# EAGLE library part USB.HUB-USB3.1-6.PORT__USB7206C/KDX (library KVM-Keyboard)
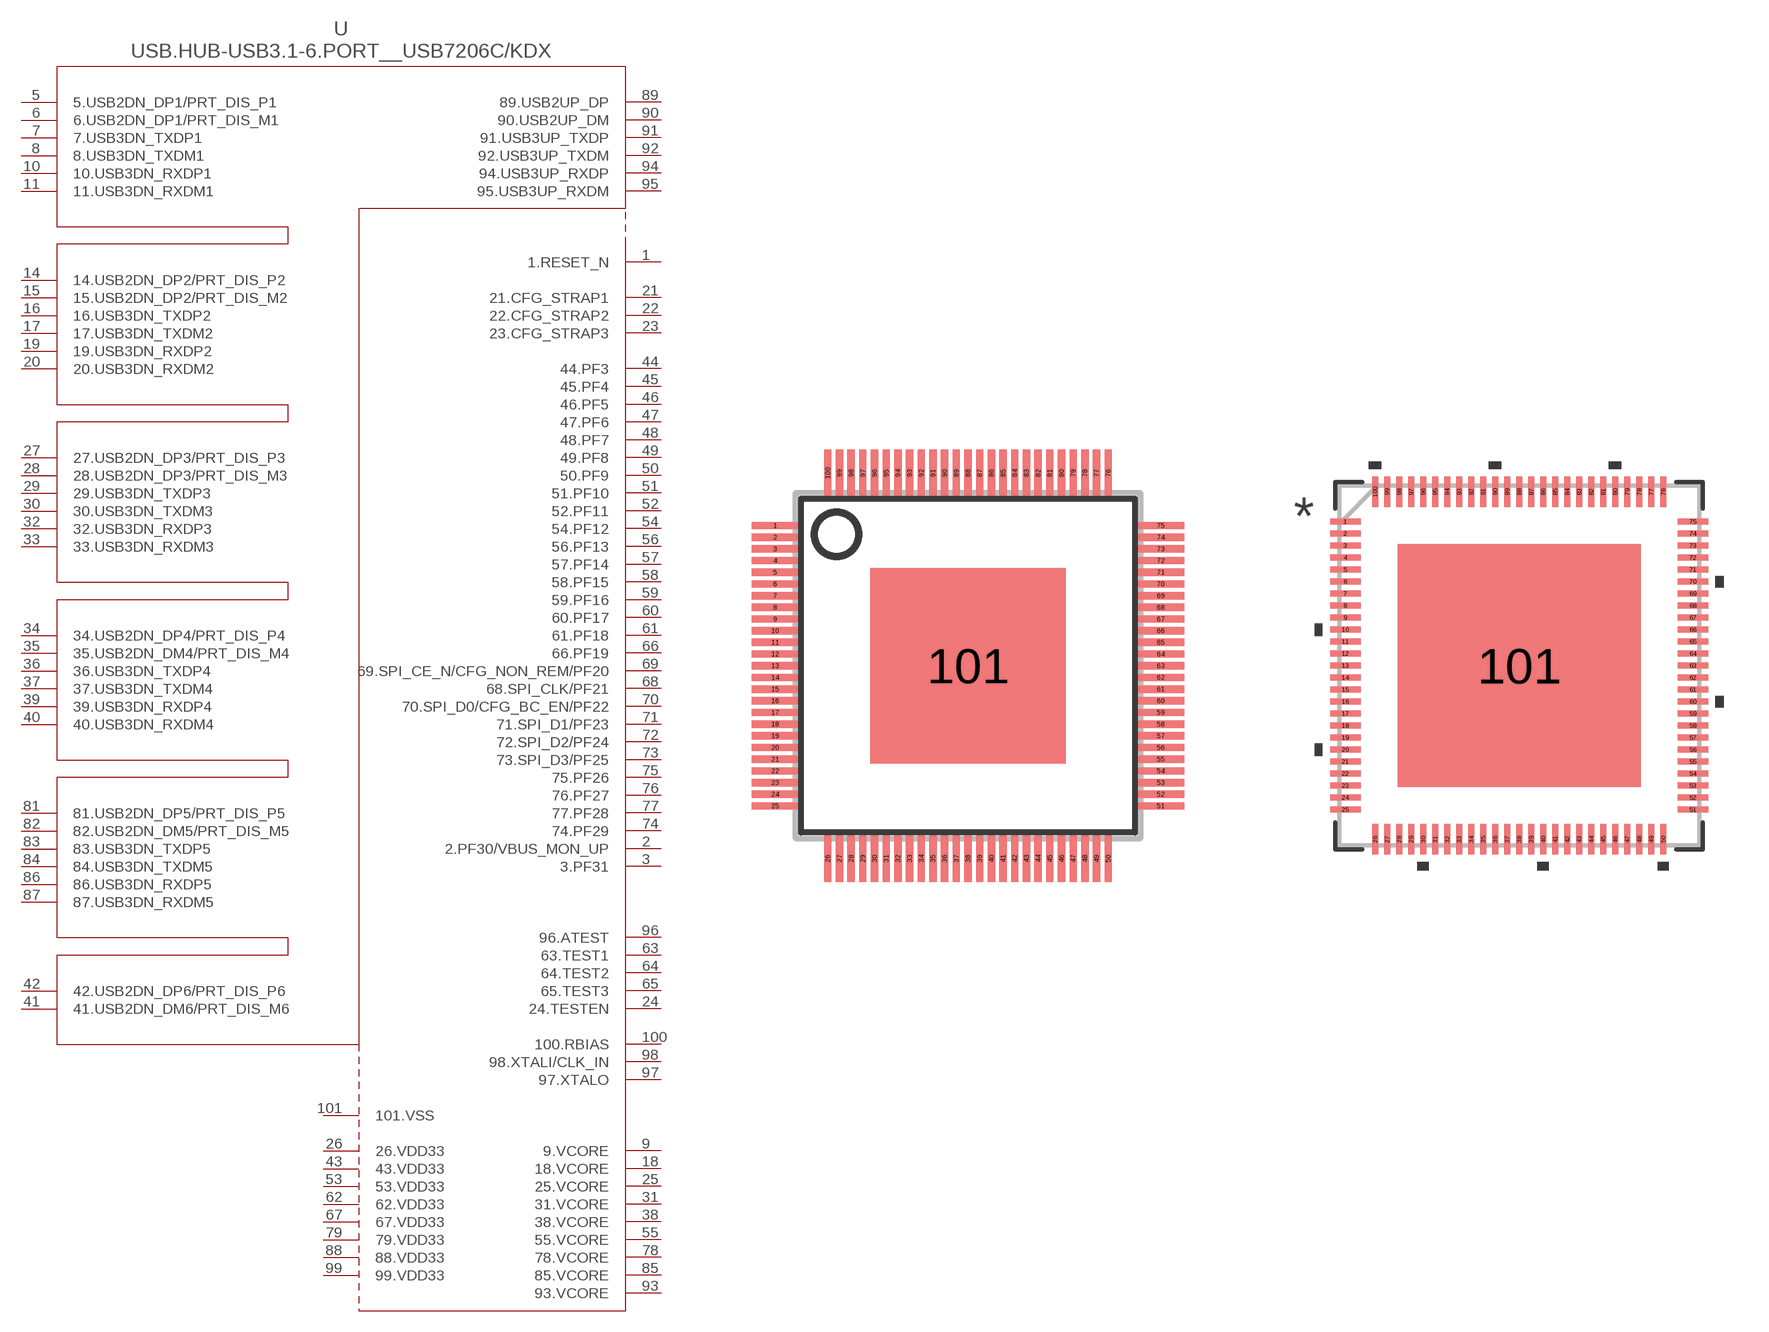
[diagram p7: symbol with the pads of 100-VFQFN_12X12__EXPOSED.PAD; footprints 100-VFQFN_12X12__EXPOSED.PAD, VQFN100_KDX_MCH]

Designator prefix -

## USB.HUB-USB3.1-6.PORT__USB7206C/KDXEDITED.EAGLE  [100-VFQFN_12X12__EXPOSED.PAD]
1  1.RESET_N  in
2  2.PF30/VBUS_MON_UP
3  3.PF31
5  5.USB2DN_DP1/PRT_DIS_P1
6  6.USB2DN_DP1/PRT_DIS_M1
7  7.USB3DN_TXDP1
8  8.USB3DN_TXDM1
9  9.VCORE  pwr
10  10.USB3DN_RXDP1
11  11.USB3DN_RXDM1
14  14.USB2DN_DP2/PRT_DIS_P2
15  15.USB2DN_DP2/PRT_DIS_M2
16  16.USB3DN_TXDP2
17  17.USB3DN_TXDM2
18  18.VCORE  pwr
19  19.USB3DN_RXDP2
20  20.USB3DN_RXDM2
21  21.CFG_STRAP1  in
22  22.CFG_STRAP2  in
23  23.CFG_STRAP3  in
24  24.TESTEN
25  25.VCORE  pwr
26  26.VDD33  pwr
27  27.USB2DN_DP3/PRT_DIS_P3
28  28.USB2DN_DP3/PRT_DIS_M3
29  29.USB3DN_TXDP3
30  30.USB3DN_TXDM3
31  31.VCORE  pwr
32  32.USB3DN_RXDP3
33  33.USB3DN_RXDM3
34  34.USB2DN_DP4/PRT_DIS_P4
35  35.USB2DN_DM4/PRT_DIS_M4
36  36.USB3DN_TXDP4
37  37.USB3DN_TXDM4
38  38.VCORE  pwr
39  39.USB3DN_RXDP4
40  40.USB3DN_RXDM4
41  41.USB2DN_DM6/PRT_DIS_M6
42  42.USB2DN_DP6/PRT_DIS_P6
43  43.VDD33  pwr
44  44.PF3
45  45.PF4
46  46.PF5
47  47.PF6
48  48.PF7
49  49.PF8
50  50.PF9
51  51.PF10
52  52.PF11
53  53.VDD33  pwr
54  54.PF12
55  55.VCORE  pwr
56  56.PF13
57  57.PF14
58  58.PF15
59  59.PF16
60  60.PF17
61  61.PF18
62  62.VDD33  pwr
63  63.TEST1
64  64.TEST2
65  65.TEST3
66  66.PF19
67  67.VDD33  pwr
68  68.SPI_CLK/PF21
69  69.SPI_CE_N/CFG_NON_REM/PF20
70  70.SPI_D0/CFG_BC_EN/PF22
71  71.SPI_D1/PF23
72  72.SPI_D2/PF24
73  73.SPI_D3/PF25
74  74.PF29
75  75.PF26
76  76.PF27
77  77.PF28
78  78.VCORE  pwr
79  79.VDD33  pwr
81  81.USB2DN_DP5/PRT_DIS_P5
82  82.USB2DN_DM5/PRT_DIS_M5
83  83.USB3DN_TXDP5
84  84.USB3DN_TXDM5
85  85.VCORE  pwr
86  86.USB3DN_RXDP5
87  87.USB3DN_RXDM5
88  88.VDD33  pwr
89  89.USB2UP_DP
90  90.USB2UP_DM
91  91.USB3UP_TXDP
92  92.USB3UP_TXDM
93  93.VCORE  pwr
94  94.USB3UP_RXDP
95  95.USB3UP_RXDM
96  96.ATEST
97  97.XTALO  out
98  98.XTALI/CLK_IN
99  99.VDD33  pwr
100  100.RBIAS
101  101.VSS  pwr

## USB.HUB-USB3.1-6.PORT__USB7206C/KDXVQFN100_KDX_MCH  [VQFN100_KDX_MCH]
Pads as for 100-VFQFN_12X12__EXPOSED.PAD

## USB.HUB-USB3.1-6.PORT__USB7206C/KDXVQFN100_KDX_MCH-L  [VQFN100_KDX_MCH-L]
Pads as for 100-VFQFN_12X12__EXPOSED.PAD

## USB.HUB-USB3.1-6.PORT__USB7206C/KDXVQFN100_KDX_MCH-M  [VQFN100_KDX_MCH-M]
Pads as for 100-VFQFN_12X12__EXPOSED.PAD

## Footprint 100-VFQFN_12X12__EXPOSED.PAD (pad centres in mm)
QFP100 shrink quad flat pack, square
smd 1.6 x 0.25: 1 -6.6,4.8; 2 -6.6,4.4; 3 -6.6,4; 4 -6.6,3.6; 5 -6.6,3.2; 6 -6.6,2.8; 7 -6.6,2.4; 8 -6.6,2; 9 -6.6,1.6; 10 -6.6,1.2; 11 -6.6,0.8; 12 -6.6,0.4; 13 -6.6,0; 14 -6.6,-0.4; 15 -6.6,-0.8; 16 -6.6,-1.2; 17 -6.6,-1.6; 18 -6.6,-2; 19 -6.6,-2.4; 20 -6.6,-2.8; 21 -6.6,-3.2; 22 -6.6,-3.6; 23 -6.6,-4; 24 -6.6,-4.4; 25 -6.6,-4.8; 51 6.6,-4.8; 52 6.6,-4.4; 53 6.6,-4; 54 6.6,-3.6; 55 6.6,-3.2; 56 6.6,-2.8; 57 6.6,-2.4; 58 6.6,-2; 59 6.6,-1.6; 60 6.6,-1.2; 61 6.6,-0.8; 62 6.6,-0.4; 63 6.6,0; 64 6.6,0.4; 65 6.6,0.8; 66 6.6,1.2; 67 6.6,1.6; 68 6.6,2; 69 6.6,2.4; 70 6.6,2.8; 71 6.6,3.2; 72 6.6,3.6; 73 6.6,4; 74 6.6,4.4; 75 6.6,4.8
smd 0.25 x 1.6: 26 -4.8,-6.6; 27 -4.4,-6.6; 28 -4,-6.6; 29 -3.6,-6.6; 30 -3.2,-6.6; 31 -2.8,-6.6; 32 -2.4,-6.6; 33 -2,-6.6; 34 -1.6,-6.6; 35 -1.2,-6.6; 36 -0.8,-6.6; 37 -0.4,-6.6; 38 0,-6.6; 39 0.4,-6.6; 40 0.8,-6.6; 41 1.2,-6.6; 42 1.6,-6.6; 43 2,-6.6; 44 2.4,-6.6; 45 2.8,-6.6; 46 3.2,-6.6; 47 3.6,-6.6; 48 4,-6.6; 49 4.4,-6.6; 50 4.8,-6.6; 76 4.8,6.6; 77 4.4,6.6; 78 4,6.6; 79 3.6,6.6; 80 3.2,6.6; 81 2.8,6.6; 82 2.4,6.6; 83 2,6.6; 84 1.6,6.6; 85 1.2,6.6; 86 0.8,6.6; 87 0.4,6.6; 88 0,6.6; 89 -0.4,6.6; 90 -0.8,6.6; 91 -1.2,6.6; 92 -1.6,6.6; 93 -2,6.6; 94 -2.4,6.6; 95 -2.8,6.6; 96 -3.2,6.6; 97 -3.6,6.6; 98 -4,6.6; 99 -4.4,6.6; 100 -4.8,6.6
smd 6.7 x 6.7: 101 0,0

## Footprint VQFN100_KDX_MCH (pad centres in mm)
smd 1.016 x 0.203: 1 -5.791,4.8; 2 -5.791,4.4; 3 -5.791,4; 4 -5.791,3.6; 5 -5.791,3.2; 6 -5.791,2.8; 7 -5.791,2.4; 8 -5.791,2; 9 -5.791,1.6; 10 -5.791,1.2; 11 -5.791,0.8; 12 -5.791,0.4; 13 -5.791,0; 14 -5.791,-0.4; 15 -5.791,-0.8; 16 -5.791,-1.2; 17 -5.791,-1.6; 18 -5.791,-2; 19 -5.791,-2.4; 20 -5.791,-2.8; 21 -5.791,-3.2; 22 -5.791,-3.6; 23 -5.791,-4; 24 -5.791,-4.4; 25 -5.791,-4.8; 51 5.791,-4.8; 52 5.791,-4.4; 53 5.791,-4; 54 5.791,-3.6; 55 5.791,-3.2; 56 5.791,-2.8; 57 5.791,-2.4; 58 5.791,-2; 59 5.791,-1.6; 60 5.791,-1.2; 61 5.791,-0.8; 62 5.791,-0.4; 63 5.791,0; 64 5.791,0.4; 65 5.791,0.8; 66 5.791,1.2; 67 5.791,1.6; 68 5.791,2; 69 5.791,2.4; 70 5.791,2.8; 71 5.791,3.2; 72 5.791,3.6; 73 5.791,4; 74 5.791,4.4; 75 5.791,4.8
smd 0.203 x 1.016: 26 -4.8,-5.791; 27 -4.4,-5.791; 28 -4,-5.791; 29 -3.6,-5.791; 30 -3.2,-5.791; 31 -2.8,-5.791; 32 -2.4,-5.791; 33 -2,-5.791; 34 -1.6,-5.791; 35 -1.2,-5.791; 36 -0.8,-5.791; 37 -0.4,-5.791; 38 0,-5.791; 39 0.4,-5.791; 40 0.8,-5.791; 41 1.2,-5.791; 42 1.6,-5.791; 43 2,-5.791; 44 2.4,-5.791; 45 2.8,-5.791; 46 3.2,-5.791; 47 3.6,-5.791; 48 4,-5.791; 49 4.4,-5.791; 50 4.8,-5.791; 76 4.8,5.791; 77 4.4,5.791; 78 4,5.791; 79 3.6,5.791; 80 3.2,5.791; 81 2.8,5.791; 82 2.4,5.791; 83 2,5.791; 84 1.6,5.791; 85 1.2,5.791; 86 0.8,5.791; 87 0.4,5.791; 88 0,5.791; 89 -0.4,5.791; 90 -0.8,5.791; 91 -1.2,5.791; 92 -1.6,5.791; 93 -2,5.791; 94 -2.4,5.791; 95 -2.8,5.791; 96 -3.2,5.791; 97 -3.6,5.791; 98 -4,5.791; 99 -4.4,5.791; 100 -4.8,5.791
smd 8.103 x 8.103: 101 0,0

## Footprint VQFN100_KDX_MCH-L (pad centres in mm)
smd 0.914 x 0.203: 1 -5.74,4.8; 2 -5.74,4.4; 3 -5.74,4; 4 -5.74,3.6; 5 -5.74,3.2; 6 -5.74,2.8; 7 -5.74,2.4; 8 -5.74,2; 9 -5.74,1.6; 10 -5.74,1.2; 11 -5.74,0.8; 12 -5.74,0.4; 13 -5.74,0; 14 -5.74,-0.4; 15 -5.74,-0.8; 16 -5.74,-1.2; 17 -5.74,-1.6; 18 -5.74,-2; 19 -5.74,-2.4; 20 -5.74,-2.8; 21 -5.74,-3.2; 22 -5.74,-3.6; 23 -5.74,-4; 24 -5.74,-4.4; 25 -5.74,-4.8; 51 5.74,-4.8; 52 5.74,-4.4; 53 5.74,-4; 54 5.74,-3.6; 55 5.74,-3.2; 56 5.74,-2.8; 57 5.74,-2.4; 58 5.74,-2; 59 5.74,-1.6; 60 5.74,-1.2; 61 5.74,-0.8; 62 5.74,-0.4; 63 5.74,0; 64 5.74,0.4; 65 5.74,0.8; 66 5.74,1.2; 67 5.74,1.6; 68 5.74,2; 69 5.74,2.4; 70 5.74,2.8; 71 5.74,3.2; 72 5.74,3.6; 73 5.74,4; 74 5.74,4.4; 75 5.74,4.8
smd 0.203 x 0.914: 26 -4.8,-5.74; 27 -4.4,-5.74; 28 -4,-5.74; 29 -3.6,-5.74; 30 -3.2,-5.74; 31 -2.8,-5.74; 32 -2.4,-5.74; 33 -2,-5.74; 34 -1.6,-5.74; 35 -1.2,-5.74; 36 -0.8,-5.74; 37 -0.4,-5.74; 38 0,-5.74; 39 0.4,-5.74; 40 0.8,-5.74; 41 1.2,-5.74; 42 1.6,-5.74; 43 2,-5.74; 44 2.4,-5.74; 45 2.8,-5.74; 46 3.2,-5.74; 47 3.6,-5.74; 48 4,-5.74; 49 4.4,-5.74; 50 4.8,-5.74; 76 4.8,5.74; 77 4.4,5.74; 78 4,5.74; 79 3.6,5.74; 80 3.2,5.74; 81 2.8,5.74; 82 2.4,5.74; 83 2,5.74; 84 1.6,5.74; 85 1.2,5.74; 86 0.8,5.74; 87 0.4,5.74; 88 0,5.74; 89 -0.4,5.74; 90 -0.8,5.74; 91 -1.2,5.74; 92 -1.6,5.74; 93 -2,5.74; 94 -2.4,5.74; 95 -2.8,5.74; 96 -3.2,5.74; 97 -3.6,5.74; 98 -4,5.74; 99 -4.4,5.74; 100 -4.8,5.74
smd 8.103 x 8.103: 101 0,0

## Footprint VQFN100_KDX_MCH-M (pad centres in mm)
smd 1.118 x 0.203: 1 -5.842,4.8; 2 -5.842,4.4; 3 -5.842,4; 4 -5.842,3.6; 5 -5.842,3.2; 6 -5.842,2.8; 7 -5.842,2.4; 8 -5.842,2; 9 -5.842,1.6; 10 -5.842,1.2; 11 -5.842,0.8; 12 -5.842,0.4; 13 -5.842,0; 14 -5.842,-0.4; 15 -5.842,-0.8; 16 -5.842,-1.2; 17 -5.842,-1.6; 18 -5.842,-2; 19 -5.842,-2.4; 20 -5.842,-2.8; 21 -5.842,-3.2; 22 -5.842,-3.6; 23 -5.842,-4; 24 -5.842,-4.4; 25 -5.842,-4.8; 51 5.842,-4.8; 52 5.842,-4.4; 53 5.842,-4; 54 5.842,-3.6; 55 5.842,-3.2; 56 5.842,-2.8; 57 5.842,-2.4; 58 5.842,-2; 59 5.842,-1.6; 60 5.842,-1.2; 61 5.842,-0.8; 62 5.842,-0.4; 63 5.842,0; 64 5.842,0.4; 65 5.842,0.8; 66 5.842,1.2; 67 5.842,1.6; 68 5.842,2; 69 5.842,2.4; 70 5.842,2.8; 71 5.842,3.2; 72 5.842,3.6; 73 5.842,4; 74 5.842,4.4; 75 5.842,4.8
smd 0.203 x 1.118: 26 -4.8,-5.842; 27 -4.4,-5.842; 28 -4,-5.842; 29 -3.6,-5.842; 30 -3.2,-5.842; 31 -2.8,-5.842; 32 -2.4,-5.842; 33 -2,-5.842; 34 -1.6,-5.842; 35 -1.2,-5.842; 36 -0.8,-5.842; 37 -0.4,-5.842; 38 0,-5.842; 39 0.4,-5.842; 40 0.8,-5.842; 41 1.2,-5.842; 42 1.6,-5.842; 43 2,-5.842; 44 2.4,-5.842; 45 2.8,-5.842; 46 3.2,-5.842; 47 3.6,-5.842; 48 4,-5.842; 49 4.4,-5.842; 50 4.8,-5.842; 76 4.8,5.842; 77 4.4,5.842; 78 4,5.842; 79 3.6,5.842; 80 3.2,5.842; 81 2.8,5.842; 82 2.4,5.842; 83 2,5.842; 84 1.6,5.842; 85 1.2,5.842; 86 0.8,5.842; 87 0.4,5.842; 88 0,5.842; 89 -0.4,5.842; 90 -0.8,5.842; 91 -1.2,5.842; 92 -1.6,5.842; 93 -2,5.842; 94 -2.4,5.842; 95 -2.8,5.842; 96 -3.2,5.842; 97 -3.6,5.842; 98 -4,5.842; 99 -4.4,5.842; 100 -4.8,5.842
smd 8.103 x 8.103: 101 0,0